# EAGLE library part SN76489AN (library Custom)
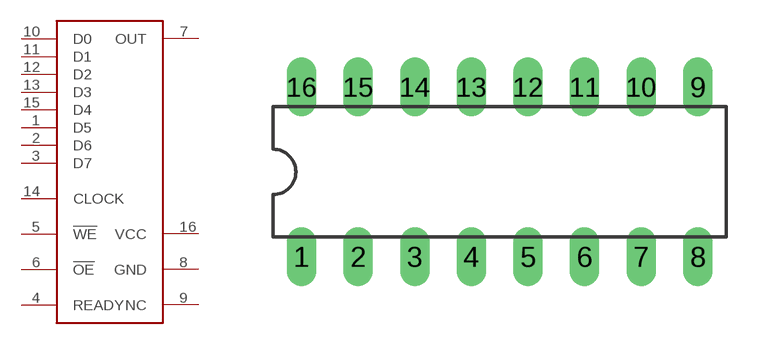
[diagram p1: symbol with the pads of DIL16; footprint DIL16]

Designator prefix -

## SN76489AN  [DIL16]
1  D5
2  D6
3  D7
4  READY
5  !WE
6  !OE
7  OUT
8  GND
9  NC
10  D0
11  D1
12  D2
13  D3
14  CLOCK
15  D4
16  VCC

## Footprint DIL16 (pad centres in mm)
Dual In Line Package
drill 0.813 long: 1 -8.89,-3.81; 2 -6.35,-3.81; 3 -3.81,-3.81; 4 -1.27,-3.81; 5 1.27,-3.81; 6 3.81,-3.81; 7 6.35,-3.81; 8 8.89,-3.81; 9 8.89,3.81; 10 6.35,3.81; 11 3.81,3.81; 12 1.27,3.81; 13 -1.27,3.81; 14 -3.81,3.81; 15 -6.35,3.81; 16 -8.89,3.81